# Altium integrated library Stefan_Library.IntLib: 38 symbols
Pins are listed as number, name and electrical type; pins without a type are passive.

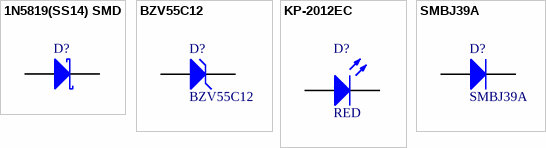
[diagram p0: symbols 1N5819(SS14) SMD to SMBJ39A]

## 1N5819(SS14) SMD
designator D?  (value not drawn)
Schottky Diode; Published: 8-Jun-2000; LatestRevisionDate: 17-Jul-2002; LatestRevisionNote: Re-released for DXP Platform.; PackageReference: SMB; Publisher: Altium Limited; PackageDescription: DO-214-AA/SMB; 2 C-Bend Leads; Body 5.3 x 3.6 mm, inc. leads (LxW); Code_JEDEC: DO-214-AA; Supplier: Comet; Supplier name: 1N5819(SS14) SMD; Name: 1N5819
signal-integrity model D Schottky
footprint DO-214AC
pins: A, K

## BZV55C12
designator D?
Zener 500 mW 5% 12V minimelf; Published: 8-Jun-2000; LatestRevisionDate: 17-Jul-2002; LatestRevisionNote: Re-released for DXP Platform.; PackageReference: SOD80C; Publisher: Altium Limited; PackageDescription: Diode, Thru-Hole; 2 Leads; 0.7 in Pin Spacing; Supplier: http://store.comet.bg/Catalogue/Product/24863/
signal-integrity model D Zener
footprint SOD80C; pin to pad 1>A 2>K
pins: 1 A, 2 K

## KP-2012EC
designator D?, comment RED
LED 0805 RED; Published: 8-Jun-2000; LatestRevisionDate: 08-Jul-2005; LatestRevisionNote: Mech Layer 1 removed.; Publisher: Altium Limited; PackageDescription: LED 0805
footprint 0805
signal-integrity model LED (LED 0805 Red)
pins: A, K

## SMBJ39A
designator D?
Transil Diode 37.7V; Name: SM6T39A; Published: 8-Jun-2000; LatestRevisionDate: 17-Jul-2002; LatestRevisionNote: Re-released for DXP Platform.; PackageReference: SMB; Publisher: Altium Limited; PackageDescription: SMB; Supplier: Comet; Supplier name: SM6T39A
footprint SMB
pins: A, K


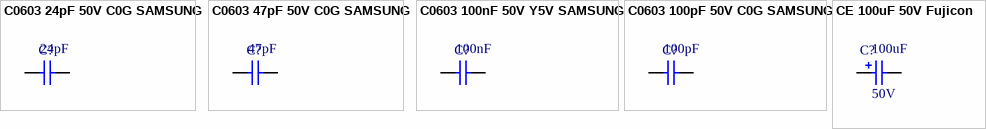
[diagram p1: symbols C0603 24pF 50V C0G SAMSUNG to CE 100uF 50V Fujicon]

## C0603 24pF 50V C0G SAMSUNG
designator C?  value 24pF
Capacitor; PartNumber: CL10C240JBNC; Manufacturer: Samsung; Voltage: 50V; Tolerance: 5%; Published: 8-Jun-2000; LatestRevisionDate: 17-Jul-2002; LatestRevisionNote: Re-released for DXP Platform.; PackageReference: RAD-0.3; Publisher: Altium Limited; PackageDescription: Radial Cap, Thru-Hole; 2 Leads; 0.3 in Pin Spacing; Supplier: Comet; Temperature: -55°C ~ +125°C
simulation model CAP (Capacitor)
signal-integrity model Cap
footprint C0603
pins: 1, 2

## C0603 47pF 50V C0G SAMSUNG
designator C?  value 47pF
Capacitor; PartNumber: CL10C470JBNC; Manufacturer: Samsung; Voltage: 50V; Tolerance: 5%; Published: 8-Jun-2000; LatestRevisionDate: 17-Jul-2002; LatestRevisionNote: Re-released for DXP Platform.; PackageReference: RAD-0.3; Publisher: Altium Limited; PackageDescription: Radial Cap, Thru-Hole; 2 Leads; 0.3 in Pin Spacing; Supplier: Comet; Temperature: -55°C ~ +125°C
simulation model CAP (Capacitor)
signal-integrity model Cap
footprint C0603
pins: 1, 2

## C0603 100nF 50V Y5V SAMSUNG
designator C?  value 100nF
Capacitor; PartNumber: CL10F104ZBNC; Manufacturer: Samsung; Voltage: 50V; Tolerance: 5%; Published: 8-Jun-2000; LatestRevisionDate: 17-Jul-2002; LatestRevisionNote: Re-released for DXP Platform.; PackageReference: 0603; Publisher: Altium Limited; PackageDescription: SMD package; Supplier: Comet; Temperature: -55°C ~ +125°C
simulation model CAP (Capacitor)
signal-integrity model Cap
footprint C0603
pins: 1, 2

## C0603 100pF 50V C0G SAMSUNG
designator C?  value 100pF
Capacitor; PartNumber: CL10C101JBNC; Manufacturer: Samsung; Voltage: 50V; Tolerance: 5%; Published: 8-Jun-2000; LatestRevisionDate: 17-Jul-2002; LatestRevisionNote: Re-released for DXP Platform.; PackageReference: RAD-0.3; Publisher: Altium Limited; PackageDescription: Radial Cap, Thru-Hole; 2 Leads; 0.3 in Pin Spacing; Supplier: Comet; Temperature: -55°C ~ +125°C
simulation model CAP (Capacitor)
signal-integrity model Cap
footprint C0603
pins: 1, 2

## CE 100uF 50V Fujicon
designator C?  value 100uF  Voltage: 50V
Electrolytic Capacitor; Published: 8-Jun-2000; LatestRevisionDate: 17-Jul-2002; LatestRevisionNote: Re-released for DXP Platform.; PackageReference: RB7.6-15; Publisher: Altium Limited; PackageDescription: Polarized Capacitor (Radial); 2 Leads
simulation model CAP (Capacitor)
signal-integrity model Cap Pol
footprint C8x12
pins: 1, 2
1 alternate drawing of the same symbol


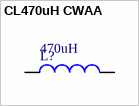
[diagram p2: symbol CL470uH CWAA]

## CL470uH CWAA
designator L?  value 470uH
Code_IEC: 1005; Published: 8-Jun-2000; LatestRevisionDate: 29-May-2009; LatestRevisionNote: IPC-7351 Footprint Added.; PackageReference: 0402-A; Publisher: Altium Limited; PackageDescription: Chip Inductor; Code_JEITA: 0402
simulation model INDUCTOR (Inductor)
signal-integrity model Inductor
footprint CW8A
pins: 1, 2


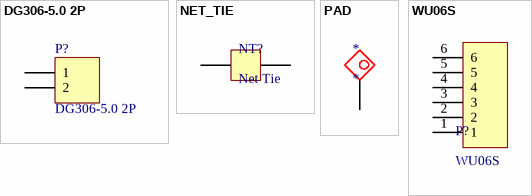
[diagram p3: symbols DG306-5.0 2P to WU06S]

## DG306-5.0 2P
designator P?
Manufacturer: DEGSON; PartNumber: DG306-5.0-02P-12-00A(H); Voltage: 300V; Current: 10A; LatestRevisionDate: 17-Jul-2002; LatestRevisionNote: Re-released for DXP Platform.; Publisher: Altium Limited; Pins: 2
signal-integrity model Connector
footprint DG306-5.0 2P
pins: 1, 2

## NET_TIE
designator NT?, comment Net Tie  (net tie, no BOM)
SMD Solder Jumper
footprint JMP (SMD Solder Jumper)
pins: 1, 2

## PAD
designator *
footprint TEST_SMD (Round 1.5mm SMD test pad)
footprint TEST_PTH_SQUARE (Square 1.5mm PTH test pad)
pins: 1

## WU06S
designator P?
footprint WU06S
signal-integrity model WU06S (Model WU06S)
pins: 1, 2, 3, 4, 5, 6


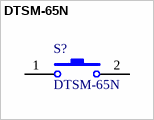
[diagram p4: symbol DTSM-65N]

## DTSM-65N
designator S?
Switch; Published: 24-Mar-1999; LatestRevisionDate: 17-Jul-2002; LatestRevisionNote: Re-released for DXP Platform.; PackageReference: SPST-2; Publisher: Altium Limited; PackageDescription: Switch; 2 Leads
footprint DTSM-6 (6.0?6.0x9.5mm SMD)
pins: 1, 2


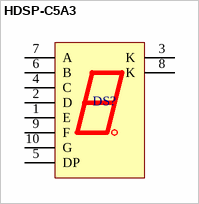
[diagram p5: symbol HDSP-C5A3]

## HDSP-C5A3
designator DS?  (value not drawn)
Part number: 1830014; Manufacturer: AVAGO TECHNOLOGIES; Character Size: 13.1mm; Common Connection: Common Cathode; Forward Current If: 20mA; Forward Voltage: 1.85V; LED Colour: Red; Luminous Intensity: 4mcd; Supplier: Farnell
footprint HDSP-C5E3
pins: 1 E, 2 D, 3 K, 4 C, 5 DP, 6 B, 7 A, 8 K, 9 F, 10 G


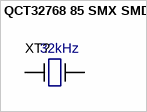
[diagram p6: symbol QCT32768 85 SMX SMD]

## QCT32768 85 SMX SMD
designator XT?, comment 32kHz
Quartz Resonator 32768HZ 20ppm 12.5pF; Manufacturer Part Number 1: QCT32768 85 SMX SMD; Frequency Stability: ±50ppm; Operating Mode: Fundamental; Frequency: 32768Hz; Frequency Tolerance: ±20ppm; Load Capacitance: 12.5pF; Operating Temperature: -20°C ~ 70°C; Mounting Type: Surface Mount; Size / Dimension: 0.118" Dia x 0.346" L (3.00mm x 8.80mm); ComponentLink1URL: http://store.comet.bg/Catalogue/Product/4178/; Height: 0.122" (3.10mm); Supplier 1: Comet; Supplier Part Number 1: QCT32768 85 SMX SMD; Tolerance: ±50ppm; Value: 32kHz
signal-integrity model Model Name (Model Description)
footprint 308C; pin to pad 2>3
pins: 1 IN, 2 OUT


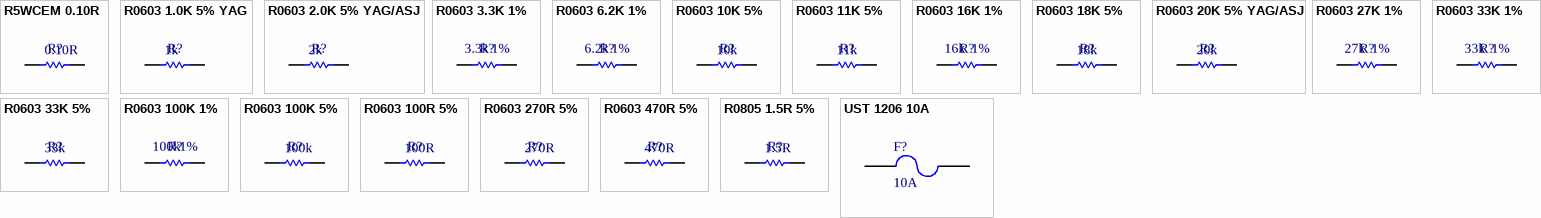
[diagram p7: symbols R5WCEM 0.10R to UST 1206 10A]

## R5WCEM 0.10R
designator R?  value 0.10R  (hidden comment: *)
Resistor; Part number: PRW05WJ010KB00; Manufacturer: UNI OHM; Tolerance: 5%; Power rating: 5W; Supplier 1: Farnell; Operating temperature: -55°C ~ +155°C
simulation model Resistor
signal-integrity model Resistor
footprint PRW05W
pins: 1, 2

## R0603 1.0K 5% YAG
designator R?  value 1k  (hidden comment: *)
Resistor; Part number: R0603 2.0K 5% YAG/ASJ; Manufacturer: UNI OHM; Tolerance: 5%; Power rating: 1/10W; Supplier 1: Farnell; Operating temperature: -55°C ~ +155°C
simulation model Resistor
signal-integrity model Resistor
footprint R0603
pins: 1, 2

## R0603 2.0K 5% YAG/ASJ
designator R?  value 2k  (hidden comment: *)
Resistor; Part number: R0603 2.0K 5% YAG/ASJ; Manufacturer: UNI OHM; Tolerance: 5%; Power rating: 1/10W; Supplier 1: Farnell; Operating temperature: -55°C ~ +155°C
simulation model Resistor
signal-integrity model Resistor
footprint R0603
pins: 1, 2

## R0603 3.3K 1%
designator R?  value 3.3k  Tolerance: 1%  (hidden comment: *)
Resistor; Part number: 0603SAF0333T50; Manufacturer: UNI OHM; Power rating: 1/10W; Supplier 1: Farnell; Operating temperature: -55°C ~ +155°C
simulation model Resistor
signal-integrity model Resistor
footprint R0603
pins: 1, 2

## R0603 6.2K 1%
designator R?  value 6.2k  Tolerance: 1%  (hidden comment: *)
Resistor; Part number: 0603SAF0333T50; Manufacturer: UNI OHM; Power rating: 1/10W; Supplier 1: Farnell; Operating temperature: -55°C ~ +155°C
simulation model Resistor
signal-integrity model Resistor
footprint R0603
pins: 1, 2

## R0603 10K 5%
designator R?  value 10k  (hidden comment: *)
Resistor; Tolerance: 5%; Power rating: 1/10W; Supplier 1: Farnell; Operating temperature: -55°C ~ +155°C
simulation model Resistor
signal-integrity model Resistor
footprint R0603
pins: 1, 2

## R0603 11K 5%
designator R?  value 11k  (hidden comment: *)
Resistor; Part number: 0603SAJ0471T50; Manufacturer: UNI OHM; Tolerance: 5%; Power rating: 1/10W; Supplier 1: Farnell; Operating temperature: -55°C ~ +155°C
simulation model Resistor
signal-integrity model Resistor
footprint R0603
pins: 1, 2

## R0603 16K 1%
designator R?  value 16k  Tolerance: 1%  (hidden comment: *)
Resistor; Part number: 0603SAF0333T50; Manufacturer: UNI OHM; Power rating: 1/10W; Supplier 1: Farnell; Operating temperature: -55°C ~ +155°C
simulation model Resistor
signal-integrity model Resistor
footprint R0603
pins: 1, 2

## R0603 18K 5%
designator R?  value 18k  (hidden comment: *)
Resistor; Part number: 0603SAJ0471T50; Manufacturer: UNI OHM; Tolerance: 5%; Power rating: 1/10W; Supplier 1: Farnell; Operating temperature: -55°C ~ +155°C
simulation model Resistor
signal-integrity model Resistor
footprint R0603
pins: 1, 2

## R0603 20K 5% YAG/ASJ
designator R?  value 20k  (hidden comment: *)
Resistor; Part number: R0603 20K 5% YAG/ASJ; Manufacturer: UNI OHM; Tolerance: 5%; Power rating: 1/10W; Supplier 1: Farnell; Operating temperature: -55°C ~ +155°C
simulation model Resistor
signal-integrity model Resistor
footprint R0603
pins: 1, 2

## R0603 27K 1%
designator R?  value 27k  Tolerance: 1%  (hidden comment: *)
Resistor; Part number: 0603SAF0273T50; Manufacturer: UNI OHM; Power rating: 1/10W; Supplier 1: Farnell; Operating temperature: -55°C ~ +155°C
simulation model Resistor
signal-integrity model Resistor
footprint R0603
pins: 1, 2

## R0603 33K 1%
designator R?  value 33k  Tolerance: 1%  (hidden comment: *)
Resistor; Part number: 0603SAF0333T50; Manufacturer: UNI OHM; Power rating: 1/10W; Supplier 1: Farnell; Operating temperature: -55°C ~ +155°C
simulation model Resistor
signal-integrity model Resistor
footprint R0603
pins: 1, 2

## R0603 33K 5%
designator R?  value 33k  (hidden comment: *)
Resistor; Part number: 0603SAJ0333T50; Manufacturer: UNI OHM; Tolerance: 5%; Power rating: 1/10W; Supplier 1: Farnell; Operating temperature: -55°C ~ +155°C
simulation model Resistor
signal-integrity model Resistor
footprint R0603
pins: 1, 2

## R0603 100K 1%
designator R?  value 100k  Tolerance: 1%  (hidden comment: *)
Resistor; Part number: 0603SAF0104T50; Manufacturer: UNI OHM; Power rating: 1/10W; Supplier 1: Farnell; Operating temperature: -55°C ~ +155°C
simulation model Resistor
signal-integrity model Resistor
footprint R0603
pins: 1, 2

## R0603 100K 5%
designator R?  value 100k  (hidden comment: *)
Resistor; Part number: R0603 2.0K 5% YAG/ASJ; Manufacturer: UNI OHM; Tolerance: 5%; Power rating: 1/10W; Supplier 1: Farnell; Operating temperature: -55°C ~ +155°C
simulation model Resistor
signal-integrity model Resistor
footprint R0603
pins: 1, 2

## R0603 100R 5%
designator R?  value 100R  (hidden comment: *)
Resistor; Part number: 0603SAJ0101T50; Manufacturer: UNI OHM; Tolerance: 5%; Power rating: 1/10W; Supplier 1: Farnell; Operating temperature: -55°C ~ +155°C
simulation model Resistor
signal-integrity model Resistor
footprint R0603
pins: 1, 2

## R0603 270R 5%
designator R?  value 270R  (hidden comment: *)
Resistor; Tolerance: 5%; Power rating: 1/10W; Supplier 1: Farnell; Operating temperature: -55°C ~ +155°C
simulation model Resistor
signal-integrity model Resistor
footprint R0603
pins: 1, 2

## R0603 470R 5%
designator R?  value 470R  (hidden comment: *)
Resistor; Part number: 0603SAJ0471T50; Manufacturer: UNI OHM; Tolerance: 5%; Power rating: 1/10W; Supplier 1: Farnell; Operating temperature: -55°C ~ +155°C
simulation model Resistor
signal-integrity model Resistor
footprint R0603
pins: 1, 2

## R0805 1.5R 5%
designator R?  value 1.5R  (hidden comment: *)
Resistor; Part number: 0805S8J015JT50; Manufacturer: UNI OHM; Tolerance: 5%; Power rating: 1/10W; Supplier 1: Comet; Operating temperature: -55°C ~ +155°C
simulation model Resistor
signal-integrity model Resistor
footprint R0805
pins: 1, 2

## UST 1206 10A
designator F?, comment 10A
Fuse; Published: 8-Jun-2000; LatestRevisionDate: 17-Jul-2002; LatestRevisionNote: Re-released for DXP Platform.; Publisher: Altium Limited; PackageDescription: *1206
footprint FUSE1206
pins: 1, 2


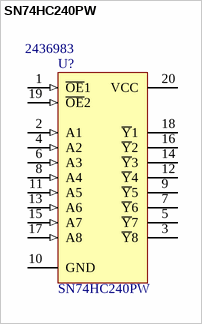
[diagram p8: symbol SN74HC240PW]

## SN74HC240PW
designator U?  Supplier Part Number 1: 2436983
Octal Buffer and Line Driver with 3-State Outputs; Published: 8-Jun-2000; LatestRevisionDate: 06-Jun-2005; LatestRevisionNote: Stylized 3D Model Added.; DatasheetVersion: May-1997; PackageVersion: Jan-1995; PackageReference: W020; Publisher: Altium Limited; PackageDescription: DFP; 20 Leads; Body 13.7 x 7.6 mm (LxW max); Pitch 1.27 mm; ComponentLink1Description: Manufacturer Link; ComponentLink1URL: http://www.ti.com/; ComponentLink2Description: Datasheet; ComponentLink2URL: http://www-s.ti.com/sc/ds/sn74hc240.pdf; Supplier 1: Farnell
signal-integrity model SN74HC240PW
footprint PW020_L (TSOP, 20-Leads, Body 6.5x4.4mm, Pitch 0.65mm, IPC High Density)
footprint PW020_M (TSOP, 20-Leads, Body 6.5x4.4mm, Pitch 0.65mm, IPC Low Density)
footprint PW020_N (TSOP, 20-Leads, Body 6.5x4.4mm, Pitch 0.65mm, IPC Medium Density)
pins: 1 ~{OE}1 (in), 2 A1 (in), 3 ~{Y}8 (hiz), 4 A2 (in), 5 ~{Y}7 (hiz), 6 A3 (in), 7 ~{Y}6 (hiz), 8 A4 (in), 9 ~{Y}5 (hiz), 10 GND (power), 11 A5 (in), 12 ~{Y}4 (hiz), 13 A6 (in), 14 ~{Y}3 (hiz), 15 A7 (in), 16 ~{Y}2 (hiz), 17 A8 (in), 18 ~{Y}1 (hiz), 19 ~{OE}2 (in), 20 VCC (power)